# EAGLE library part SD_SOCKET (library SD_card_socket)
SD card socket
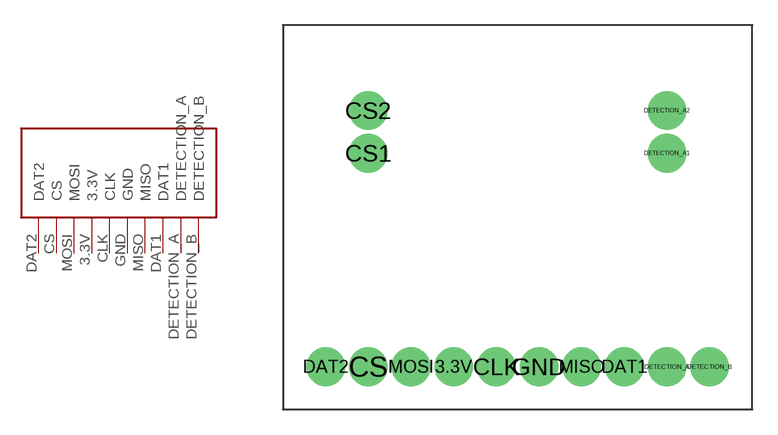
[diagram p0: symbol with the pads of SD; footprint SD]

Designator prefix CONNECTION

## SD_SOCKET  [SD]
3.3V  3.3V
CLK  CLK
CS  CS
DAT1  DAT1
DAT2  DAT2
DETECTION_A  DETECTION_A
DETECTION_B  DETECTION_B
GND  GND
MISO  MISO
MOSI  MOSI

## Footprint SD (pad centres in mm)
SD card
drill 1 pad 2.3: 3.3V 7.62,0; CLK 10.16,0; CS 2.54,0; CS1 2.54,12.7; CS2 2.54,15.24; DAT1 17.78,0; DAT2 0,0; DETECTION_A 20.32,0; DETECTION_A1 20.32,12.7; DETECTION_A2 20.32,15.24; DETECTION_B 22.86,0; GND 12.7,0; MISO 15.24,0; MOSI 5.08,0